# EAGLE library part SW_DIP-4 (library libredaq-comps)
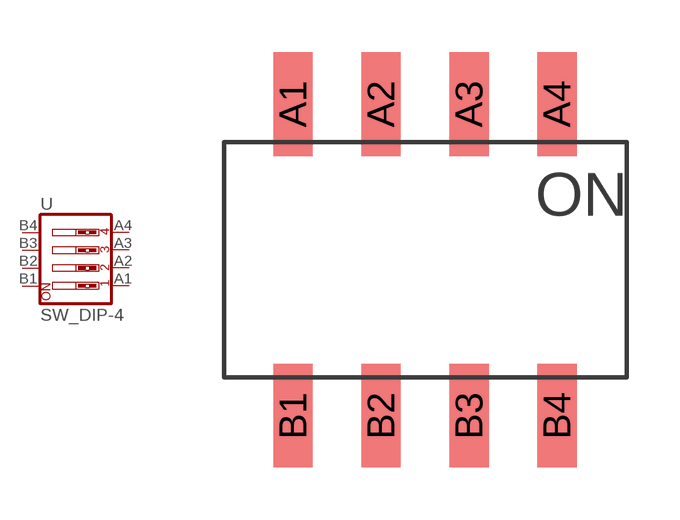
[diagram p13: symbol with the pads of SW_SIP-4; footprint SW_SIP-4]

Designator prefix -

## SW_DIP-4  [SW_SIP-4]
A1  A1  pas
A2  A2  pas
A3  A3  pas
A4  A4  pas
B1  B1  pas
B2  B2  pas
B3  B3  pas
B4  B4  pas

## Footprint SW_SIP-4 (pad centres in mm)
smd 1.13 x 3: A1 0,4.5; A2 2.54,4.5; A3 5.08,4.5; A4 7.62,4.5; B1 0,-4.5; B2 2.54,-4.5; B3 5.08,-4.5; B4 7.62,-4.5